# Altium footprint library CPD1715.PcbLib: 1 footprints
Each footprint in its own frame and in the unit in brackets; x right, y up, seen from the top. Pads: shape width x height; smd on the part's side, far side on the other; paste and mask are expansions set on the pad; w line width, h text height; cw(c..) or ccw(c..) is an arc to the next point about the centre after c.
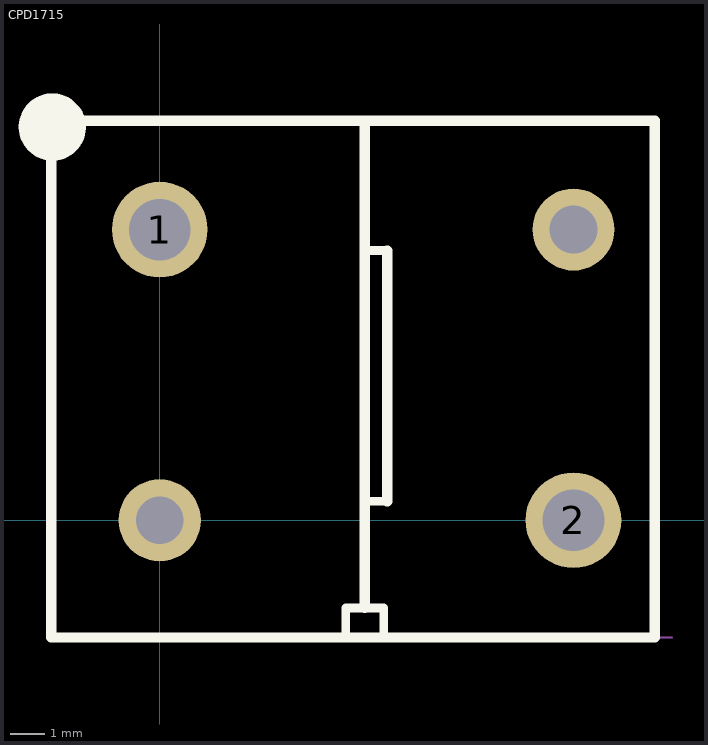
[diagram p0: the footprint, top view; thin cyan lines are the x and y axes]

## CPD1715 [mm]
height 19.5
pads (4):
  round 2.8 hole 1.8: 1(0,8.5) 2(12.1,0)
  round 2.4 hole 1.4: ""(0,0) ""(12.1,8.5)
Top Overlay:
  lines w0.254: 5.436,-3.404 5.436,-2.565 6.553,-2.565 6.553,-3.404 ; 6.096,0.559 6.655,0.559 ; 6.096,7.89 6.655,7.89
  lines w0.3: 5.994,-2.565 5.994,11.659 ; 6.655,0.559 6.655,7.89 ; -3.175,-3.429 -3.175,11.684 14.478,11.684 14.478,-3.429 -3.175,-3.429
  lines w1: -2.667,11.405 cw(c-3.141,11.499) -2.658,11.499
Mechanical 1:
  lines w0.05: -3.175,-3.429 -3.175,11.684 14.478,11.684 14.478,-3.429 ; -2.667,-3.429 14.986,-3.429
3D body: height 19.5, standoff 0, extent -3.048,-3.429 14.478,11.684